# EAGLE library part ADAFRUIT_RFM95W_LORA_RADIO (library AERO_Eagle_Library)
Adafruit's LoRa Radio: RFM95W https://www.adafruit.com/product/3072
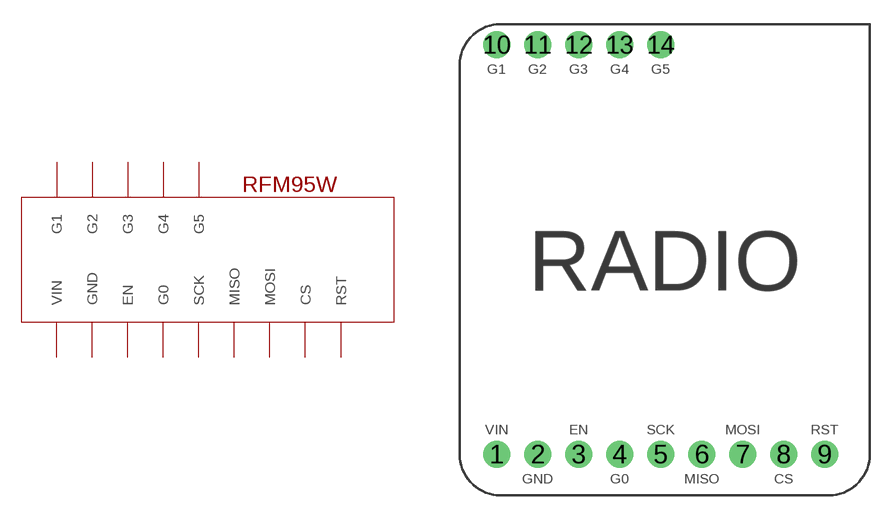
[diagram p1: symbol with the pads of ADAFRUIT_RFM95W_LORA_RADIO; footprint ADAFRUIT_RFM95W_LORA_RADIO]

Designator prefix U

## ADAFRUIT_RFM95W_LORA_RADIO  [ADAFRUIT_RFM95W_LORA_RADIO]
1  VIN
2  GND
3  EN
4  G0
5  SCK
6  MISO
7  MOSI
8  CS
9  RST
10  G1
11  G2
12  G3
13  G4
14  G5

## Footprint ADAFRUIT_RFM95W_LORA_RADIO (pad centres in mm)
Adafruit's LoRa Radio: RFM95W https://www.adafruit.com/product/3072
drill 1 pad 1.676: 1 2.29,-26.67; 2 4.83,-26.67; 3 7.37,-26.67; 4 9.91,-26.67; 5 12.45,-26.67; 6 14.99,-26.67; 7 17.53,-26.67; 8 20.07,-26.67; 9 22.61,-26.67; 10 2.29,-1.27; 11 4.83,-1.27; 12 7.37,-1.27; 13 9.91,-1.27; 14 12.45,-1.27